# EAGLE library part MCP41X1 (library ekho)
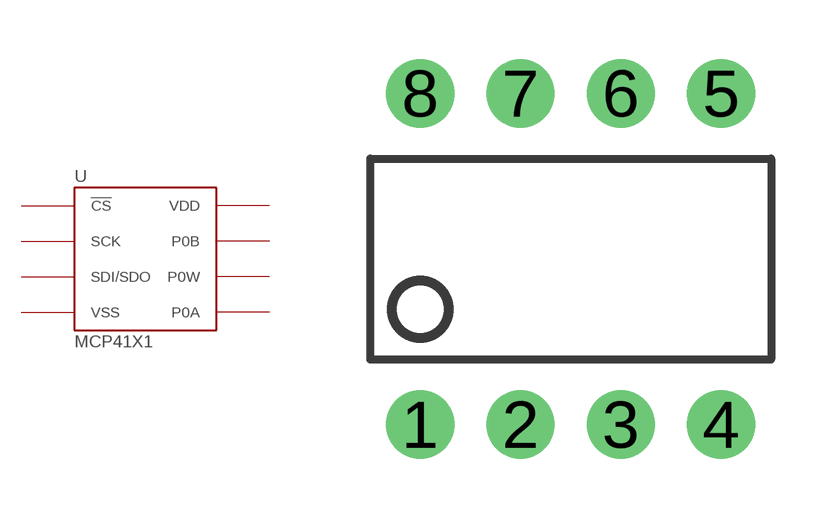
[diagram p3: symbol with the pads of DIP08-KIT; footprint DIP08-KIT]

Designator prefix -

## MCP41X1  [DIP08-KIT]
1  !CS
2  SCK
3  SDI/SDO
4  VSS
5  P0A
6  P0W
7  P0B
8  VDD

## Footprint DIP08-KIT (pad centres in mm)
drill 0.813 pad 1.727: 1 -3.81,-4.191; 2 -1.27,-4.191; 3 1.27,-4.191; 4 3.81,-4.191; 5 3.81,4.191; 6 1.27,4.191; 7 -1.27,4.191; 8 -3.81,4.191